# EAGLE library part MICROFIT3_VERT_8PIN (library molex)
Micro-Fit 3.0™ Vertical Header, 3.00mm Pitch, Dual Row, 8 Circuits, with PCB Polarizing Peg, Gold, Glow Wire Compliant, Black Part Number: 43045-0828 Link <http://www.molex.com/molex/products/datasheet.jsp?part=active/0430450828_PCB_HEADERS.xml>
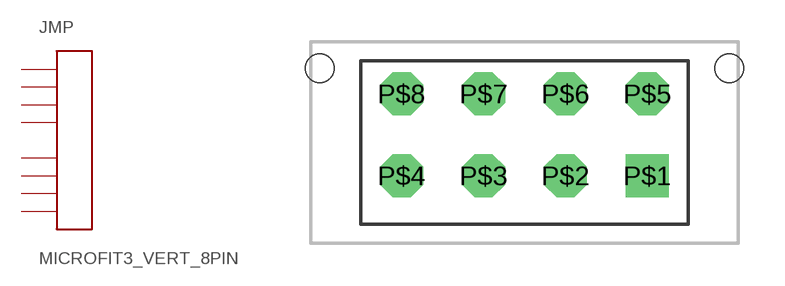
[diagram p4: symbol with the pads of MICROFIT3_VERT_8PIN; footprint MICROFIT3_VERT_8PIN]

Designator prefix JMP

## MICROFIT3_VERT_8PIN43045-0828  [MICROFIT3_VERT_8PIN]
P$1  P$1
P$2  P$2
P$3  P$3
P$4  P$4
P$5  P$5
P$6  P$6
P$7  P$7
P$8  P$8

## Footprint MICROFIT3_VERT_8PIN (pad centres in mm)
drill 1.05 square: P$1 4.5,-1.215
drill 1.05 octagon: P$2 1.5,-1.215; P$3 -1.5,-1.215; P$4 -4.5,-1.215; P$5 4.5,1.785; P$6 1.5,1.785; P$7 -1.5,1.785; P$8 -4.5,1.785
hole 1.05 at -7.5,2.725
hole 1.05 at 7.5,2.725